# EAGLE library part MH20-2 (library l3lanSpy)
20x2 Pin Male Header
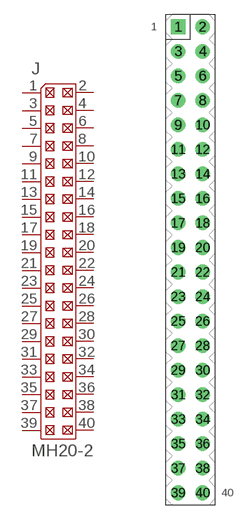
[diagram p4: symbol with the pads of MH20-2-0.1; footprint MH20-2-0.1]

Designator prefix J

## MH20-2  [MH20-2-0.1]
1  1  pas
2  2  pas
3  3  pas
4  4  pas
5  5  pas
6  6  pas
7  7  pas
8  8  pas
9  9  pas
10  10  pas
11  11  pas
12  12  pas
13  13  pas
14  14  pas
15  15  pas
16  16  pas
17  17  pas
18  18  pas
19  19  pas
20  20  pas
21  21  pas
22  22  pas
23  23  pas
24  24  pas
25  25  pas
26  26  pas
27  27  pas
28  28  pas
29  29  pas
30  30  pas
31  31  pas
32  32  pas
33  33  pas
34  34  pas
35  35  pas
36  36  pas
37  37  pas
38  38  pas
39  39  pas
40  40  pas

## Footprint MH20-2-0.1 (pad centres in mm)
20x2 Pin Male Header, 0.1" Pitch
drill 1 square: 1 -1.27,21.59
drill 1: 2 1.27,21.59; 3 -1.27,19.05; 4 1.27,19.05; 5 -1.27,16.51; 6 1.27,16.51; 7 -1.27,13.97; 8 1.27,13.97; 9 -1.27,11.43; 10 1.27,11.43; 11 -1.27,8.89; 12 1.27,8.89; 13 -1.27,6.35; 14 1.27,6.35; 15 -1.27,3.81; 16 1.27,3.81; 17 -1.27,1.27; 18 1.27,1.27; 19 -1.27,-1.27; 20 1.27,-1.27; 21 -1.27,-3.81; 22 1.27,-3.81; 23 -1.27,-6.35; 24 1.27,-6.35; 25 -1.27,-8.89; 26 1.27,-8.89; 27 -1.27,-11.43; 28 1.27,-11.43; 29 -1.27,-13.97; 30 1.27,-13.97; 31 -1.27,-16.51; 32 1.27,-16.51; 33 -1.27,-19.05; 34 1.27,-19.05; 35 -1.27,-21.59; 36 1.27,-21.59; 37 -1.27,-24.13; 38 1.27,-24.13; 39 -1.27,-26.67; 40 1.27,-26.67